# Altium schematic symbol library WS2813B-V5.SchLib: 1 symbol
Pins are listed as number, name and electrical type; pins without a type are passive.

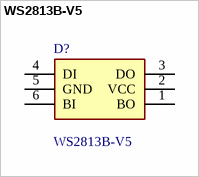
[diagram p0: symbol WS2813B-V5]

## WS2813B-V5
designator D?
SMD,5.4x5.0x1.65mm Light Emitting Diodes (LED) RoHS; Manufacturer_Name: Worldsemi; Geometry.Height: 1.7mm; Manufacturer_Part_Number: WS2813B-V5; Mouser Part Number: *; Mouser Price/Stock: *; Arrow Part Number: *; Arrow Price/Stock: *; Datasheet Link: https://datasheet.lcsc.com/lcsc/2012110135_Worldsemi-WS2813B-V5_C965558.pdf
footprint WS2813BV5
pins: 1 BO, 2 VCC, 3 DO, 4 DI, 5 GND, 6 BI